# EAGLE library part LED_BRG_SMD_5050 (library rgb_led_smd)
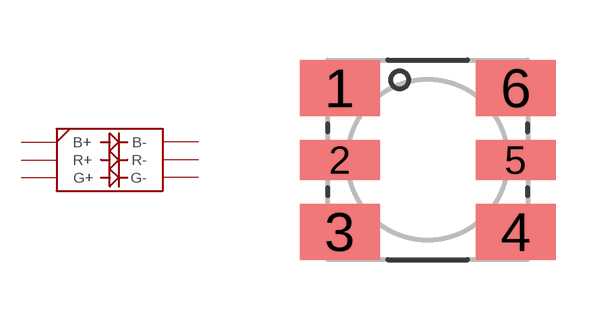
[diagram p0: symbol with the pads of RGB_LED_SMD_5050; footprint RGB_LED_SMD_5050]

Designator prefix -

## LED_BRG_SMD_5050  [RGB_LED_SMD_5050]
1  B+
2  R+
3  G+
4  G-
5  R-
6  B-

## Footprint RGB_LED_SMD_5050 (pad centres in mm)
smd 2 x 1.4: 1 -2.2,1.8; 3 -2.2,-1.8; 4 2.2,-1.8; 6 2.2,1.8
smd 2 x 1: 2 -2.2,0; 5 2.2,0